# Altium footprint library JCLib.PcbLib: 28 footprints (part 1 of 2)
Each footprint in its own frame and in the unit in brackets; x right, y up, seen from the top. Pads: shape width x height; smd on the part's side, far side on the other; paste and mask are expansions set on the pad; w line width, h text height; cw(c..) or ccw(c..) is an arc to the next point about the centre after c.
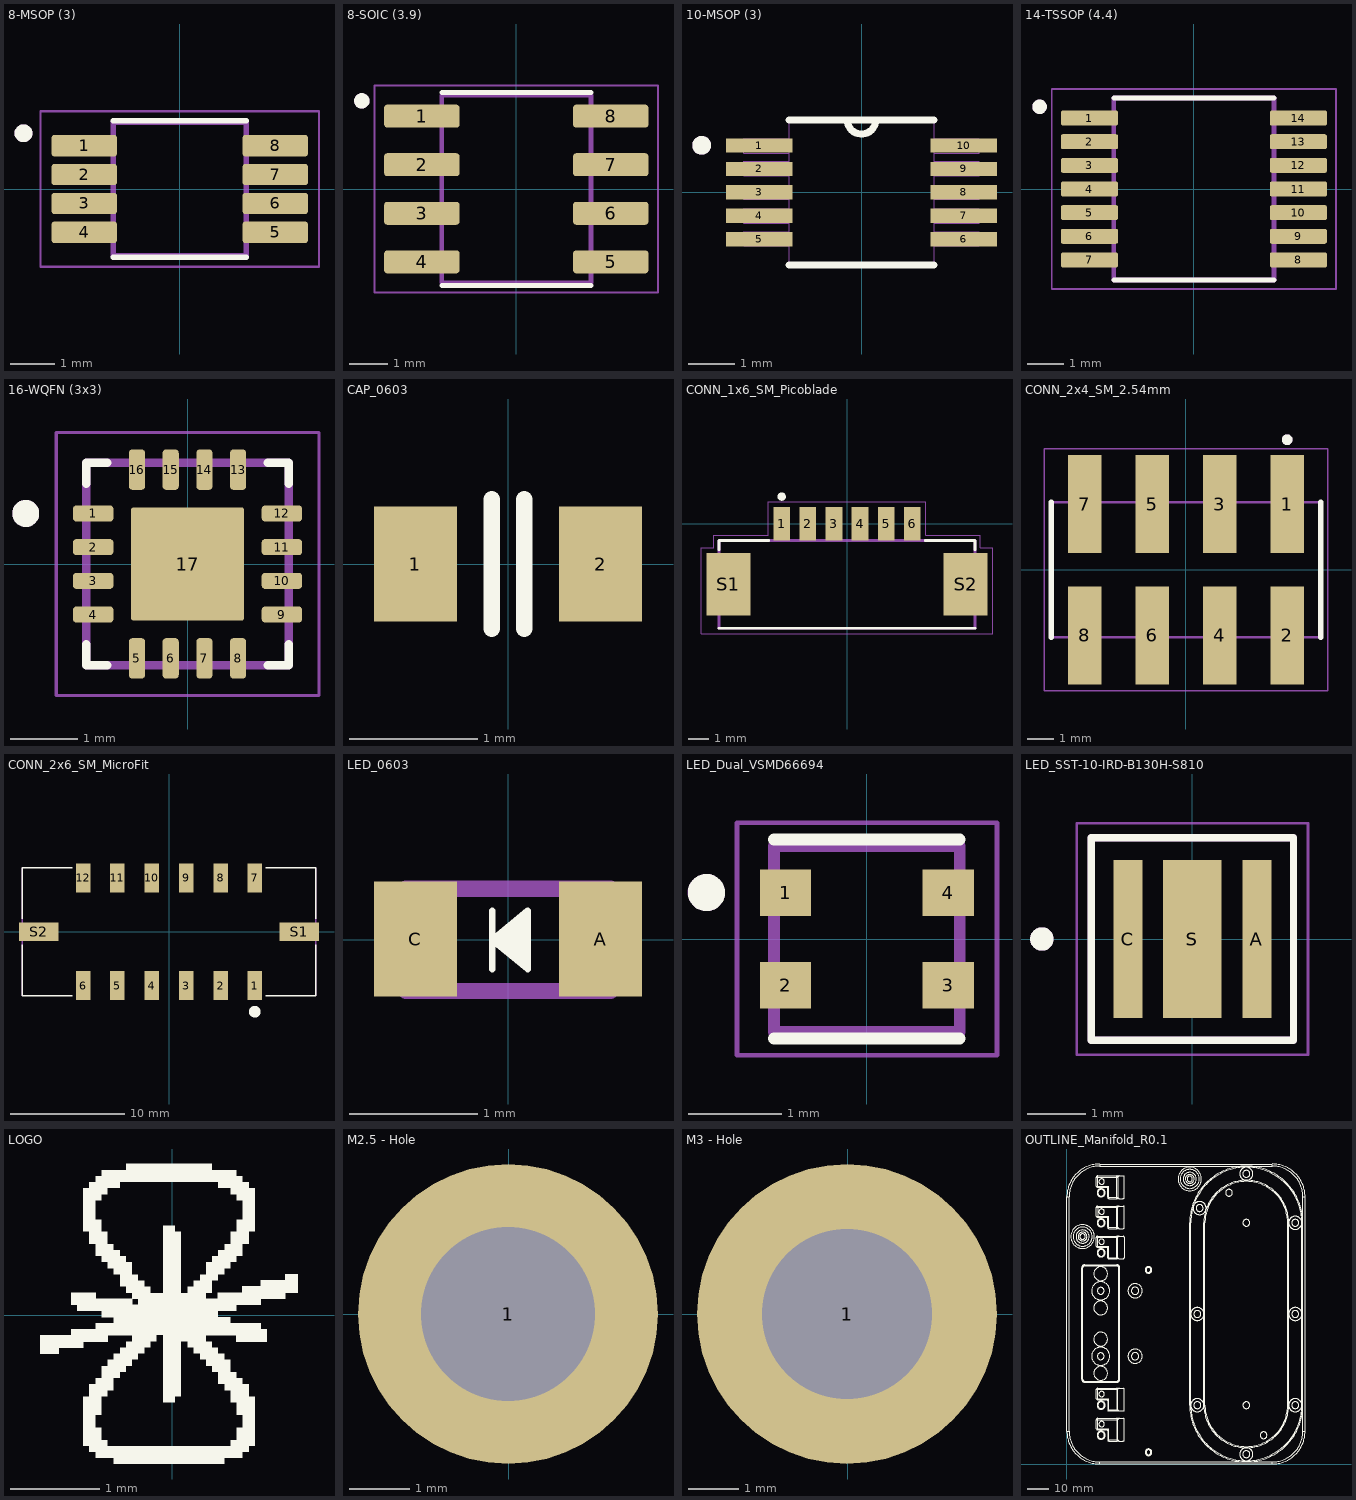
[diagram p0: the footprints below, top view; thin cyan lines are the x and y axes]

## 8-MSOP (3) [mm]
pads (8):
  rrect25% 1.47x0.48 smd: 1(-2.15,0.975) 2(-2.15,0.325) 3(-2.15,-0.325) 4(-2.15,-0.975) 5(2.15,-0.975) 6(2.15,-0.325) 7(2.15,0.325) 8(2.15,0.975)
Top Overlay:
  circle w0.2: c-3.52,1.255 r0.1
  lines w0.127: -1.5,-1.535 1.5,-1.535 ; -1.5,1.535 1.5,1.535
Mechanical 13:
  circle w0.2: c-3.52,1.255 r0.1
  lines w0.127: -1.5,-1.5 -1.5,1.5 1.5,1.5 1.5,-1.5 -1.5,-1.5
Mechanical 15:
  lines w0.05: -3.135,-1.75 -3.135,1.75 3.135,1.75 3.135,-1.75 -3.135,-1.75
3D body "step_temp.STEP": height 1.1, standoff 0, extent -2.45,-1.5 2.45,1.5

## 8-SOIC (3.9) [mm]
pads (8):
  rrect25% 1.97x0.6 smd: 1(-2.47,1.905) 2(-2.47,0.635) 3(-2.47,-0.635) 4(-2.47,-1.905) 5(2.47,-1.905) 6(2.47,-0.635) 7(2.47,0.635) 8(2.47,1.905)
Top Overlay:
  circle w0.2: c-4.04,2.305 r0.1
  lines w0.127: -1.95,-2.525 1.95,-2.525 ; -1.95,2.525 1.95,2.525
Mechanical 13:
  circle w0.2: c-4.04,2.305 r0.1
  lines w0.127: -1.95,-2.452 -1.95,2.452 1.95,2.452 1.95,-2.452 -1.95,-2.452
Mechanical 15:
  lines w0.05: -3.705,-2.702 -3.705,2.702 3.705,2.702 3.705,-2.702 -3.705,-2.702
3D body "OPA177GS_2K5G4.STEP": height 1.75, standoff 0, extent -2.979,-2.47 3.021,2.43

## 10-MSOP (3) [mil]
pads (10):
  rect 56x12 smd: 1(-86,39.37) 2(-86,19.68) 3(-86,0) 4(-86,-19.68) 5(-86,-39.37) 6(86,-39.37) 7(86,-19.68) 8(86,0) 9(86,19.68) 10(86,39.37)
Top Overlay:
  circle w7.87: c-134.49,39.53 r3.94
  lines w6: -61,-61 61,-61 ; -61,61 -12,61 ; 61,61 12,61 ; -12,61 ccw(c0,61) 12,61 ; -12,61 12,61
Mechanical 13:
  circle w7.87: c-134.49,39.53 r3.94
  lines w0: -12,61 ccw(c0,61) 12,61 ; -12,61 -61,61 -61,-61 61,-61 61,61 12,61 ; -12,61 12,61 ; -99,-45 -61,-45 -61,-33 -99,-33 -99,-45 ; -99,-26 -61,-26 -61,-14 -99,-14 -99,-26 ; -99,-6 -61,-6 -61,6 -99,6 -99,-6 ; -99,14 -61,14 -61,26 -99,26 -99,14 ; -99,33 -61,33 -61,45 -99,45 -99,33 ; 61,-45 99,-45 99,-33 61,-33 61,-45 ; 61,-26 99,-26 99,-14 61,-14 61,-26 ; 61,-6 99,-6 99,6 61,6 61,-6 ; 61,14 99,14 99,26 61,26 61,14 ; 61,33 99,33 99,45 61,45 61,33
3D body "AD5272BRMZ-100-RL7.STEP": height 43.31, standoff 0, extent -96.46,-59.06 96.46,59.06

## 14-TSSOP (4.4) [mm]
pads (14):
  rrect25% 1.57x0.41 smd: 1(-2.87,1.95) 2(-2.87,1.3) 3(-2.87,0.65) 4(-2.87,0) 5(-2.87,-0.65) 6(-2.87,-1.3) 7(-2.87,-1.95) 8(2.87,-1.95) 9(2.87,-1.3) 10(2.87,-0.65) 11(2.87,0) 12(2.87,0.65) 13(2.87,1.3) 14(2.87,1.95)
Top Overlay:
  circle w0.2: c-4.24,2.26 r0.1
  lines w0.127: -2.2,-2.5 2.2,-2.5 ; -2.2,2.5 2.2,2.5
Mechanical 13:
  circle w0.2: c-4.24,2.26 r0.1
  lines w0.127: -2.2,-2.5 2.2,-2.5 2.2,2.5 -2.2,2.5 -2.2,-2.5
Mechanical 15:
  lines w0.05: -3.905,-2.75 3.905,-2.75 3.905,2.75 -3.905,2.75 -3.905,-2.75
3D body "LMP7704MTX_NOPB.STEP": height 1.2, standoff 0, extent -3.206,-2.49 3.194,2.51

## 16-WQFN (3x3) [mm]
pads (17):
  rrect43% 0.6x0.24 smd: 1(-1.4,0.75) 2(-1.4,0.25) 3(-1.4,-0.25) 4(-1.4,-0.75) 9(1.4,-0.75) 10(1.4,-0.25) 11(1.4,0.25) 12(1.4,0.75)
  rrect43% 0.24x0.6 smd: 5(-0.75,-1.4) 6(-0.25,-1.4) 7(0.25,-1.4) 8(0.75,-1.4) 13(0.75,1.4) 14(0.25,1.4) 15(-0.25,1.4) 16(-0.75,1.4)
  rrect5% 1.68x1.68 smd paste-2: 17(0,0)
Top Overlay:
  circle w0.2: c-2.4,0.75 r0.1
  lines w0.127: -1.5,-1.19 -1.5,-1.5 -1.19,-1.5 ; -1.5,1.19 -1.5,1.5 -1.19,1.5 ; 1.19,-1.5 1.5,-1.5 1.5,-1.19 ; 1.19,1.5 1.5,1.5 1.5,1.19
Top Paste:
  region: 0.733,0.774 0.735,0.774 0.738,0.773 0.74,0.773 0.743,0.772 0.745,0.771 0.748,0.77 0.75,0.768 0.752,0.767 0.754,0.765 0.756,0.764 0.758,0.762 0.76,0.76 0.762,0.758 0.764,0.756 0.765,0.754 0.767,0.752 0.768,0.75 0.77,0.748 0.771,0.745 0.772,0.743 0.773,0.74 0.773,0.738 0.774,0.735 0.774,0.733 0.775,0.73 0.775,0.728 0.775,0.725 0.775,-0.725 0.775,-0.728 0.775,-0.73 0.774,-0.733 0.774,-0.735 0.773,-0.738 0.773,-0.74 0.772,-0.743 0.771,-0.745 0.77,-0.748 0.768,-0.75 0.767,-0.752 0.765,-0.754 0.764,-0.756 0.762,-0.758 0.76,-0.76 0.758,-0.762 0.756,-0.764 0.754,-0.765 0.752,-0.767 0.75,-0.768 0.748,-0.77 0.745,-0.771 0.743,-0.772 0.74,-0.773 0.738,-0.773 0.735,-0.774 0.733,-0.774 0.73,-0.775 -0.73,-0.775 -0.733,-0.774 -0.735,-0.774 -0.738,-0.773 -0.74,-0.773 -0.743,-0.772 -0.745,-0.771 -0.748,-0.77 -0.75,-0.768 -0.752,-0.767 -0.754,-0.765 -0.756,-0.764 -0.758,-0.762 -0.76,-0.76 -0.762,-0.758 -0.764,-0.756 -0.765,-0.754 -0.767,-0.752 -0.768,-0.75 -0.77,-0.748 -0.771,-0.745 -0.772,-0.743 -0.773,-0.74 -0.773,-0.738 -0.774,-0.735 -0.774,-0.733 -0.775,-0.73 -0.775,-0.728 -0.775,-0.725 -0.775,0.725 -0.775,0.728 -0.775,0.73 -0.774,0.733 -0.774,0.735 -0.773,0.738 -0.773,0.74 -0.772,0.743 -0.771,0.745 -0.77,0.748 -0.768,0.75 -0.767,0.752 -0.765,0.754 -0.764,0.756 -0.762,0.758 -0.76,0.76 -0.758,0.762 -0.756,0.764 -0.754,0.765 -0.752,0.767 -0.75,0.768 -0.748,0.77 -0.745,0.771 -0.743,0.772 -0.74,0.773 -0.738,0.773 -0.735,0.774 -0.733,0.774 -0.73,0.775 0.73,0.775
Mechanical 13:
  circle w0.2: c-2.4,0.75 r0.1
  lines w0.127: -1.5,-1.5 -1.5,1.5 1.5,1.5 1.5,-1.5 -1.5,-1.5
Mechanical 15:
  lines w0.05: -1.95,-1.95 1.95,-1.95 1.95,1.95 -1.95,1.95 -1.95,-1.95
3D body "step_temp.STEP": height 0.8, standoff 0, extent -1.5,-1.5 1.5,1.5

## CAP_0603 [mm]
pads (2):
  rect 0.65x0.9 smd: 1(-0.725,0) 2(0.725,0)
Top Overlay:
  lines w0.127: -0.127,-0.508 -0.127,0.508 ; 0.127,-0.508 0.127,0.508
3D body "885012206014.STEP": height 0.86, standoff 0.06, extent -0.8,-0.4 0.8,0.4

## CONN_1x6_SM_Picoblade [mm]
pads (8):
  rect 0.8x1.6 smd: 1(-3.125,0) 2(-1.875,0) 3(-0.625,0) 4(0.625,0) 5(1.875,0) 6(3.125,0)
  rect 2.1x3 smd: S1(-5.675,-2.9) S2(5.675,-2.9)
Top Overlay:
  circle w0.2: c-3.125,1.3 r0.1
  lines w0.127: -6.125,-5 6.125,-5 ; -6.125,-1.25 -6.125,-0.8 -3.75,-0.8 ; 3.75,-0.8 6.125,-0.8 6.125,-1.25
Mechanical 13:
  lines w0.127: -6.125,-5 -6.125,-0.8 6.125,-0.8 6.125,-5 -6.125,-5
Mechanical 15:
  lines w0.05: -6.975,-5.25 6.975,-5.25 6.975,-1.15 6.375,-1.15 6.375,-0.55 3.775,-0.55 3.775,1.05 -3.775,1.05 -3.775,-0.55 -6.375,-0.55 -6.375,-1.15 -6.975,-1.15 -6.975,-5.25
3D body "0532610671.step": height 3.5, standoff 0.1, extent -6.325,-4.912 6.325,0.288

## CONN_2x4_SM_2.54mm [mm] "2.54mm Pitch Connector - 8 Position - Surface Mount"
pads (8):
  rect 1.27x3.68 smd: 1(3.812,2.468) 2(3.812,-2.482) 3(1.272,2.468) 4(1.272,-2.482) 5(-1.268,2.468) 6(-1.268,-2.482) 7(-3.808,2.468) 8(-3.808,-2.482)
Top Overlay:
  circle w0.2: c3.812,4.893 r0.1
  lines w0.2: -5.078,-2.547 -5.078,2.533 ; 5.082,-2.547 5.082,2.533
Mechanical 13:
  circle w0.2: c3.812,4.893 r0.1
  lines w0.1: -5.078,-2.547 5.082,-2.547 5.082,2.533 -5.078,2.533 -5.078,-2.547
Mechanical 15:
  lines w0.05: -5.328,-4.572 5.332,-4.572 5.332,4.558 -5.328,4.558 -5.328,-4.572
3D body "15-91-0080.STEP": height 9.66, standoff 0, extent -5.078,-3.507 5.082,3.493

## CONN_2x6_SM_MicroFit [mm]
height 9.91
pads (14):
  rect 1.27x2.54 smd mask+0.076: 1(7.5,-4.7) 2(4.5,-4.7) 3(1.5,-4.7) 4(-1.5,-4.7) 5(-4.5,-4.7) 6(-7.5,-4.7) 7(7.5,4.7) 8(4.5,4.7) 9(1.5,4.7) 10(-1.5,4.7) 11(-4.5,4.7) 12(-7.5,4.7)
  rect 3.43x1.65 smd mask+0.076: S1(11.385,0) S2(-11.385,0)
Top Overlay:
  circle w0.508: c7.493,-6.985 r0.254
  lines w0.127: -12.825,-1.145 -12.825,-5.6 -8.455,-5.6 ; -12.825,1.145 -12.825,5.6 -8.455,5.6 ; 8.455,-5.6 12.825,-5.6 12.825,-1.145 ; 8.455,5.6 12.825,5.6 12.825,1.145
Mechanical 13:
  lines w0.127: -12.825,-5.6 -12.825,5.6 ; 12.825,-5.6 12.825,5.6
3D body "430451218.stp": height 10.06, standoff 0.1, extent -12.794,-5.64 12.856,5.555

## LED_0603 [mm]
pads (2):
  rect 0.65x0.9 smd: A(0.723,0.007) C(-0.727,0.007)
Top Overlay:
  lines w0.051: -0.127,-0.229 -0.127,0 ; -0.127,0.229 -0.127,0 ; -0.127,0 0.152,-0.229 0.152,0.229 -0.127,0
  lines w0.076: -0.051,-0.036 -0.051,0.04 ; 0,-0.077 0,0.084 ; 0.051,-0.127 0.051,0.127 ; 0.102,-0.164 0.102,0.166
Mechanical 13:
  lines w0.127: -0.8,-0.4 -0.8,0.4 0.8,0.4 0.8,-0.4 -0.8,-0.4
3D body "step_temp.STEP": height 0.8, standoff 0, extent -0.8,-0.4 0.8,0.4

## LED_Dual_VSMD66694 [mm] "Infrared (IR), Visible Emitter 940nm, 660nm 1.4V, 2V 70mA 120° 2-SMD, No Lead"
pads (4):
  rect 0.55x0.5 smd: 1(-0.875,0.5) 2(-0.875,-0.5) 3(0.875,-0.5) 4(0.875,0.5)
Top Overlay:
  circle w0.2: c-1.728,0.5 r0.1
  lines w0.127: -1,-1.07 1,-1.07 ; -1,1.07 1,1.07
Mechanical 13:
  circle w0.2: c-1.73,0.5 r0.1
  lines w0.127: -1,-1 -1,1 1,1 1,-1 -1,-1
Mechanical 15:
  lines w0.05: -1.4,-1.25 -1.4,1.25 1.4,1.25 1.4,-1.25 -1.4,-1.25
3D body: height 0.87, standoff 0, extent -1.006,-0.999 1.006,0.999

## LED_SST-10-IRD-B130H-S810 [mm] "Infrared (IR) Emitter 810nm 1.5A 130° 1414 (3535 Metric)"
pads (3):
  rect 0.5x2.7 smd: A(1.1,0) C(-1.1,0)
  rect 1x2.7 smd paste-2: S(0,0)
Top Overlay:
  circle w0.2: c-2.57,0 r0.1
  lines w0.127: -1.725,-1.725 -1.725,1.725 1.725,1.725 1.725,-1.725 -1.725,-1.725
Top Paste:
  region: 0.316,-0.854 -0.316,-0.854 -0.316,0.854 0.316,0.854
Mechanical 13:
  circle w0.2: c-2.57,0 r0.1
  lines w0.127: -1.725,-1.725 -1.725,1.725 1.725,1.725 1.725,-1.725 -1.725,-1.725
Mechanical 15:
  lines w0.05: -1.975,-1.975 1.975,-1.975 1.975,1.975 -1.975,1.975 -1.975,-1.975
3D body "SST-10-IRD-B130-S940--3DModel-STEP-56544.STEP": height 2.03, standoff 0, extent -1.725,-1.725 1.725,1.725

## LOGO [mm] "Science Logo"
Top Overlay:
  drawing of 1 lines, arcs and shapes, not listed

## M2.5 - Hole [mm]
pads (1):
  round 5 hole 2.9: 1(-0.012,0)

## M3 - Hole [mm]
pads (1):
  round 6 hole 3.4: 1(-0.012,0)

## OUTLINE_Manifold_R0.1 [mm] "I2C Pressure Sensor"
Top Overlay:
  drawing of 309 lines, arcs and shapes, not listed